# EAGLE library part TEST_MULTISIMB (library Messstation)
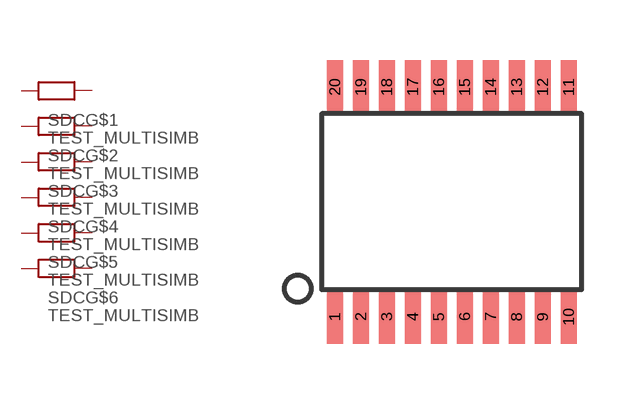
[diagram p5: symbol with the pads of TSSOP20; footprint TSSOP20]

Designator prefix SDC; gates G$1=R G$2=R G$3=R G$4=R G$5=R G$6=R

## TEST_MULTISIMB  [TSSOP20]
1  G$1:P$1
2  G$1:P$2
3  G$2:P$1
4  G$2:P$2
5  G$3:P$1
6  G$3:P$2
7  G$4:P$1
8  G$4:P$2
9  G$5:P$1
10  G$5:P$2
11  G$6:P$1
12  G$6:P$2

## Footprint TSSOP20 (pad centres in mm)
smd 0.4 x 1.35: 1 0,0; 2 0.65,0; 3 1.3,0; 4 1.95,0; 5 2.6,0; 6 3.25,0; 7 3.9,0; 8 4.55,0; 9 5.2,0; 10 5.85,0; 11 5.85,5.75; 12 5.2,5.75; 13 4.55,5.75; 14 3.9,5.75; 15 3.25,5.75; 16 2.6,5.75; 17 1.95,5.75; 18 1.3,5.75; 19 0.65,5.75; 20 0,5.75